# Altium footprint library DXPpcb.PCBLIB: 575 footprints (part 17 of 36)
Each footprint in its own frame and in the unit in brackets; x right, y up, seen from the top. Pads: shape width x height; smd on the part's side, far side on the other; paste and mask are expansions set on the pad; w line width, h text height; cw(c..) or ccw(c..) is an arc to the next point about the centre after c.
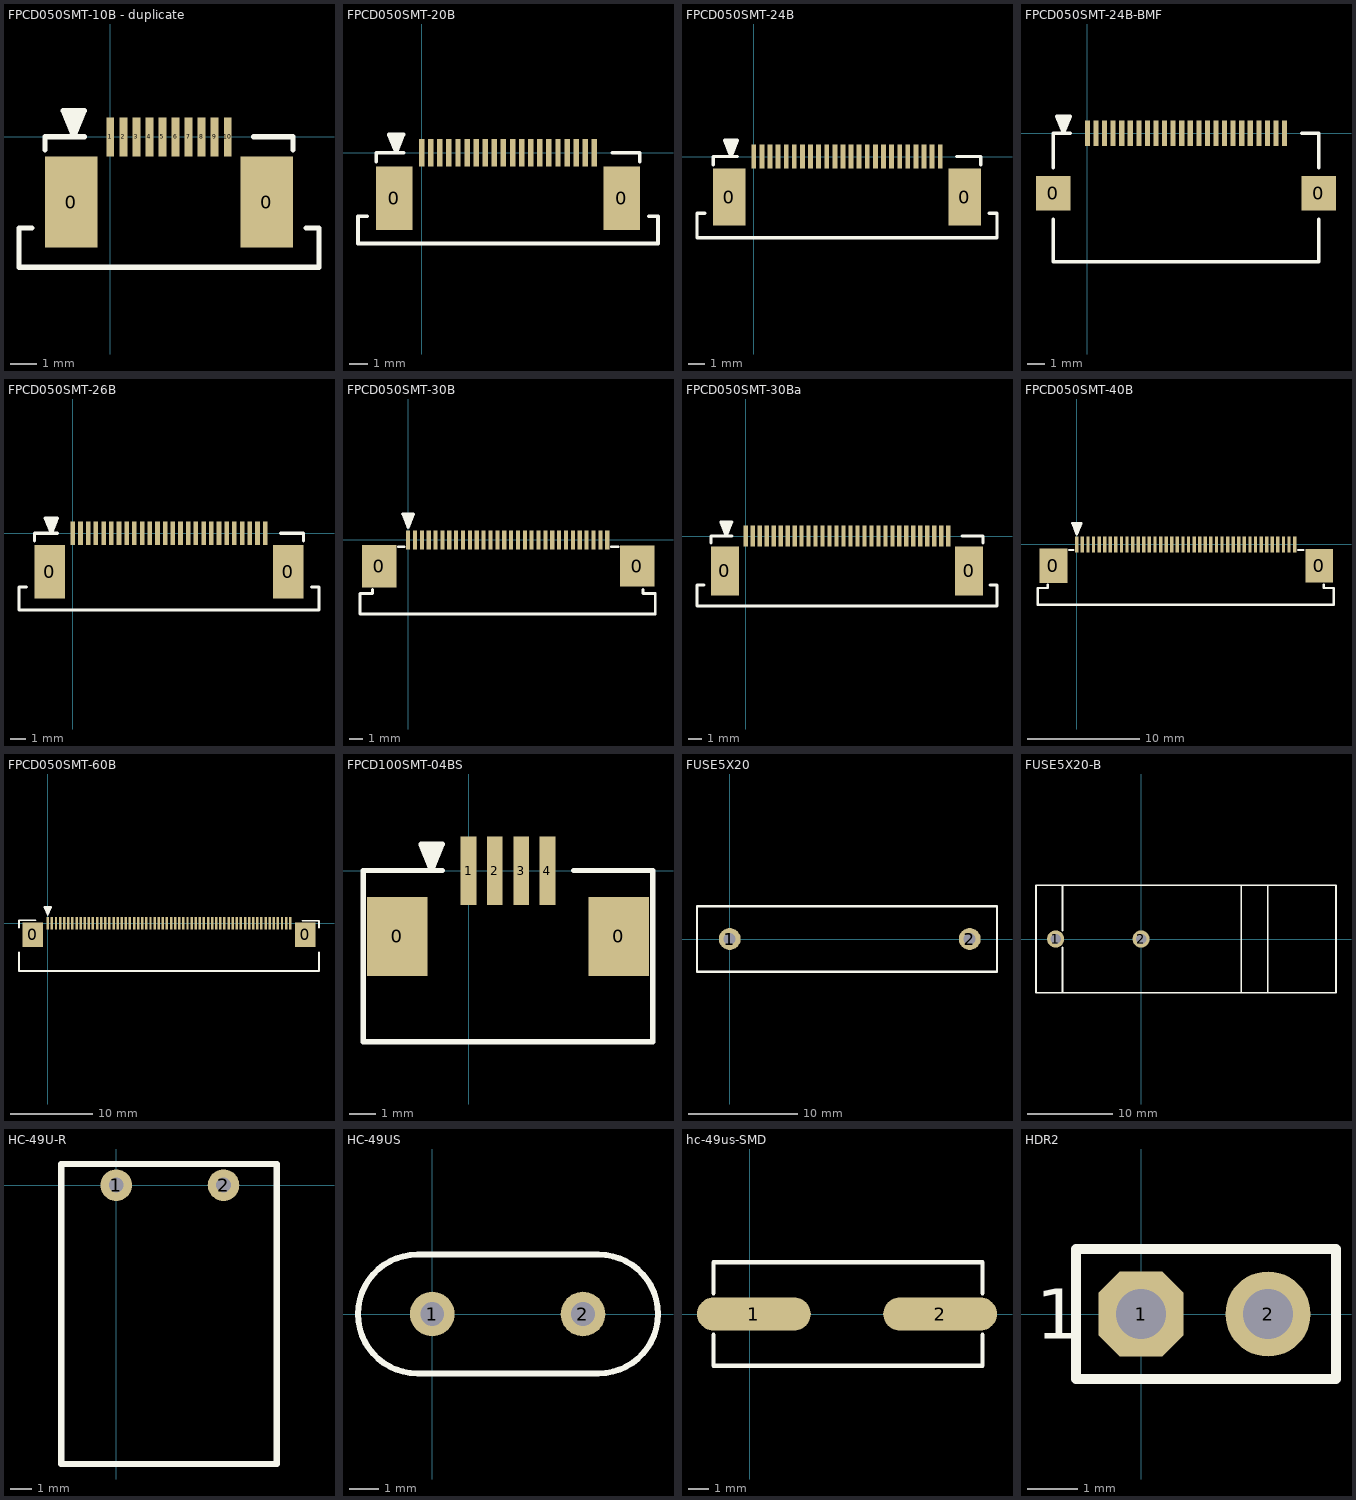
[diagram p16: the footprints below, top view; thin cyan lines are the x and y axes]

## FPCD050SMT-10B - duplicate [mm]
pads (12):
  rect 2x3.5 smd: 0(-1.5,-2.5) 0(6,-2.5)
  rect 0.3x1.5 smd: 1(0,0) 2(0.5,0) 3(1,0) 4(1.5,0) 5(2,0) 6(2.5,0) 7(3,0) 8(3.5,0) 9(4,0) 10(4.5,0)
TopOverlay:
  lines w0.2: -3,-3.5 -3.5,-3.5 -3.5,-5 8,-5 8,-3.5 7.5,-3.5 ; -2.5,-0.5 -2.5,0 -1.5,0 -1,0 ; -1.6,1 -1.5,0.4 ; -1.4,1 -1.4,0 ; -1.3,0.5 -1.2,1 ; 5.5,0 6,0 7,0 7,-0.5 ; -1.4,0 -1,1 -1.8,1 -1.4,0

## FPCD050SMT-20B [mm]
pads (22):
  rect 2x3.5 smd: 0(-1.5,-2.5) 0(11,-2.5)
  rect 0.3x1.5 smd: 1(0,0) 2(0.5,0) 3(1,0) 4(1.5,0) 5(2,0) 6(2.5,0) 7(3,0) 8(3.5,0) 9(4,0) 10(4.5,0) 11(5,0) 12(5.5,0) 13(6,0) 14(6.5,0) 15(7,0) 16(7.5,0) 17(8,0) 18(8.5,0) 19(9,0) 20(9.5,0)
TopOverlay:
  lines w0.2: -3,-3.5 -3.5,-3.5 -3.5,-5 13,-5 13,-3.5 12.5,-3.5 ; -2.5,-0.5 -2.5,0 -1.5,0 -1,0 ; -1.6,1 -1.5,0.4 ; -1.4,1 -1.4,0 ; -1.3,0.5 -1.2,1 ; 10.5,0 11,0 12,0 12,-0.5 ; -1.4,0 -1,1 -1.8,1 -1.4,0

## FPCD050SMT-24B [mm]
pads (26):
  rect 2x3.5 smd: 0(-1.5,-2.5) 0(13,-2.5)
  rect 0.3x1.5 smd: 1(0,0) 2(0.5,0) 3(1,0) 4(1.5,0) 5(2,0) 6(2.5,0) 7(3,0) 8(3.5,0) 9(4,0) 10(4.5,0) 11(5,0) 12(5.5,0) 13(6,0) 14(6.5,0) 15(7,0) 16(7.5,0) 17(8,0) 18(8.5,0) 19(9,0) 20(9.5,0) 21(10,0) 22(10.5,0) 23(11,0) 24(11.5,0)
TopOverlay:
  lines w0.2: -3,-3.5 -3.5,-3.5 -3.5,-5 15,-5 15,-3.5 14.5,-3.5 ; -2.5,-0.5 -2.5,0 -1.5,0 -1,0 ; -1.6,1 -1.5,0.4 ; -1.4,1 -1.4,0 ; -1.3,0.5 -1.2,1 ; 12.5,0 13,0 14,0 14,-0.5 ; -1.4,0 -1,1 -1.8,1 -1.4,0

## FPCD050SMT-24B-BMF [mm]
pads (26):
  rect 2x2 smd: 0(-2,-3.5) 0(13.5,-3.5)
  rect 0.3x1.5 smd: 1(0,0) 2(0.5,0) 3(1,0) 4(1.5,0) 5(2,0) 6(2.5,0) 7(3,0) 8(3.5,0) 9(4,0) 10(4.5,0) 11(5,0) 12(5.5,0) 13(6,0) 14(6.5,0) 15(7,0) 16(7.5,0) 17(8,0) 18(8.5,0) 19(9,0) 20(9.5,0) 21(10,0) 22(10.5,0) 23(11,0) 24(11.5,0)
TopOverlay:
  lines w0.2: -2,-5 -2,-7.5 13.5,-7.5 13.5,-5 ; -2,-2 -2,0 -1.5,0 -1,0 ; -1.6,1 -1.5,0.4 ; -1.4,1 -1.4,0 ; -1.3,0.5 -1.2,1 ; 12.5,0 13,0 13.5,0 13.5,-2 ; -1.4,0 -1,1 -1.8,1 -1.4,0

## FPCD050SMT-26B [mm]
pads (28):
  rect 2x3.5 smd: 0(-1.5,-2.5) 0(14,-2.5)
  rect 0.3x1.5 smd: 1(0,0) 2(0.5,0) 3(1,0) 4(1.5,0) 5(2,0) 6(2.5,0) 7(3,0) 8(3.5,0) 9(4,0) 10(4.5,0) 11(5,0) 12(5.5,0) 13(6,0) 14(6.5,0) 15(7,0) 16(7.5,0) 17(8,0) 18(8.5,0) 19(9,0) 20(9.5,0) 21(10,0) 22(10.5,0) 23(11,0) 24(11.5,0) 25(12,0) 26(12.5,0)
TopOverlay:
  lines w0.2: -3,-3.5 -3.5,-3.5 -3.5,-5 16,-5 16,-3.5 15.5,-3.5 ; -2.5,-0.5 -2.5,0 -1.5,0 -1,0 ; -1.6,1 -1.5,0.4 ; -1.4,1 -1.4,0 ; -1.3,0.5 -1.2,1 ; 13.5,0 14,0 15,0 15,-0.5 ; -1.4,0 -1.8,1 -1,1 -1.4,0

## FPCD050SMT-30B [mm]
pads (32):
  rect 2.5x3.1 smd: 0(-2.1,-1.9)
  rect 2.5x3 smd: 0(16.7,-1.9)
  rect 0.3x1.4 smd: 1(0,0) 2(0.5,0) 3(1,0) 4(1.5,0) 5(2,0) 6(2.5,0) 7(3,0) 8(3.5,0) 9(4,0) 10(4.5,0) 11(5,0) 12(5.5,0) 13(6,0) 14(6.5,0) 15(7,0) 16(7.5,0) 17(8,0) 18(8.5,0) 19(9,0) 20(9.5,0) 21(10,0) 22(10.5,0) 23(11,0) 24(11.5,0) 25(12,0) 26(12.5,0) 27(13,0) 28(13.5,0) 29(14,0) 30(14.5,0)
TopOverlay:
  lines w0.2: -2.6,-3.6 -2.6,-3.9 -3.5,-3.9 -3.5,-5.4 18,-5.4 18,-3.9 17.1,-3.9 17.1,-3.6 ; -0.7,-0.5 -0.3,-0.5 ; -0.2,1.9 -0.1,1.3 ; 0,1.9 0,0.9 ; 0.1,1.4 0.2,1.9 ; 14.8,-0.5 15.3,-0.5 ; 0,0.9 -0.4,1.9 0.4,1.9 0,0.9

## FPCD050SMT-30Ba [mm]
pads (32):
  rect 2x3.5 smd: 0(-1.5,-2.5) 0(16,-2.5)
  rect 0.3x1.5 smd: 1(0,0) 2(0.5,0) 3(1,0) 4(1.5,0) 5(2,0) 6(2.5,0) 7(3,0) 8(3.5,0) 9(4,0) 10(4.5,0) 11(5,0) 12(5.5,0) 13(6,0) 14(6.5,0) 15(7,0) 16(7.5,0) 17(8,0) 18(8.5,0) 19(9,0) 20(9.5,0) 21(10,0) 22(10.5,0) 23(11,0) 24(11.5,0) 25(12,0) 26(12.5,0) 27(13,0) 28(13.5,0) 29(14,0) 30(14.5,0)
TopOverlay:
  lines w0.2: -3,-3.5 -3.5,-3.5 -3.5,-5 18,-5 18,-3.5 17.5,-3.5 ; -2.5,-0.5 -2.5,0 -1.5,0 -1,0 ; -1.6,1 -1.5,0.4 ; -1.4,1 -1.4,0 ; -1.3,0.5 -1.2,1 ; 15.5,0 16,0 17,0 17,-0.5 ; -1.4,0 -1,1 -1.8,1 -1.4,0

## FPCD050SMT-40B [mm]
pads (42):
  rect 2.5x3.1 smd: 0(-2.1,-1.9)
  rect 2.5x3 smd: 0(21.7,-1.9)
  rect 0.3x1.4 smd: 1(0,0) 2(0.5,0) 3(1,0) 4(1.5,0) 5(2,0) 6(2.5,0) 7(3,0) 8(3.5,0) 9(4,0) 10(4.5,0) 11(5,0) 12(5.5,0) 13(6,0) 14(6.5,0) 15(7,0) 16(7.5,0) 17(8,0) 18(8.5,0) 19(9,0) 20(9.5,0) 21(10,0) 22(10.5,0) 23(11,0) 24(11.5,0) 25(12,0) 26(12.5,0) 27(13,0) 28(13.5,0) 29(14,0) 30(14.5,0) 31(15,0) 32(15.5,0) 33(16,0) 34(16.5,0) 35(17,0) 36(17.5,0) 37(18,0) 38(18.5,0) 39(19,0) 40(19.5,0)
TopOverlay:
  lines w0.2: -2.6,-3.6 -2.6,-3.9 -3.5,-3.9 -3.5,-5.4 23,-5.4 23,-3.9 22.1,-3.9 22.1,-3.6 ; -0.7,-0.5 -0.3,-0.5 ; -0.2,1.9 -0.1,1.3 ; 0,1.9 0,0.9 ; 0.1,1.4 0.2,1.9 ; 19.8,-0.5 20.3,-0.5 ; 0,0.9 -0.4,1.9 0.4,1.9 0,0.9

## FPCD050SMT-60B [mm]
pads (62):
  rect 2.5x3 smd: 0(-1.8,-1.4) 0(31.3,-1.4)
  rect 0.3x1.5 smd: 1(0,0) 2(0.5,0) 3(1,0) 4(1.5,0) 5(2,0) 6(2.5,0) 7(3,0) 8(3.5,0) 9(4,0) 10(4.5,0) 11(5,0) 12(5.5,0) 13(6,0) 14(6.5,0) 15(7,0) 16(7.5,0) 17(8,0) 18(8.5,0) 19(9,0) 20(9.5,0) 21(10,0) 22(10.5,0) 23(11,0) 24(11.5,0) 25(12,0) 26(12.5,0) 27(13,0) 28(13.5,0) 29(14,0) 30(14.5,0) 31(15,0) 32(15.5,0) 33(16,0) 34(16.5,0) 35(17,0) 36(17.5,0) 37(18,0) 38(18.5,0) 39(19,0) 40(19.5,0) 41(20,0) 42(20.5,0) 43(21,0) 44(21.5,0) 45(22,0) 46(22.5,0) 47(23,0) 48(23.5,0) 49(24,0) 50(24.5,0) 51(25,0) 52(25.5,0) 53(26,0) 54(26.5,0) 55(27,0) 56(27.5,0) 57(28,0) 58(28.5,0) 59(29,0) 60(29.5,0)
TopOverlay:
  lines w0.2: -3.5,-3.5 -3.5,-5.8 33,-5.8 33,-3.5 ; -3.5,-0.5 -3.5,0.4 -1.5,0.4 ; -0.2,2 -0.1,1.4 ; 0,2 0,1 ; 0.1,1.5 0.2,2 ; 31,0.3 33,0.3 33,-0.5 ; 0,1 0.4,2 -0.4,2 0,1

## FPCD100SMT-04BS [mm]
pads (6):
  rect 2.3x3 smd: 0(-2.7,-2.5) 0(5.7,-2.5)
  rect 0.6x2.6 smd: 1(0,0) 2(1,0) 3(2,0) 4(3,0)
TopOverlay:
  lines w0.2: -1.6,1 -1.5,0.4 ; -1.4,1 -1.4,0 ; -1.3,0.5 -1.2,1 ; -1,0 -1.5,0 -4,0 -4,-6.5 0,-6.5 7,-6.5 7,0 4.9,0 4,0 ; -1.4,0 -1.8,1 -1,1 -1.4,0

## FUSE5X20 [mm]
pads (2):
  round 2 hole 1.1: 1(0,0) 2(22,0)
TopOverlay:
  lines w0.2: -3,-3 24.5,-3 24.5,3 -3,3 -3,-3

## FUSE5X20-B [mm]
pads (2):
  round 2 hole 1.2: 1(-10,0) 2(0,0)
TopOverlay:
  lines w0.2: -9.2,-6.3 -9.2,-1 ; -9.2,1 -9.2,6.3 ; 11.7,-6.3 11.7,6.3 ; 14.8,-6.3 14.8,6.3 ; -12.3,-6.3 22.8,-6.3 22.8,6.3 -12.3,6.3 -12.3,-6.3

## HC-49U-R [mm]
pads (2):
  round 1.5 hole 0.7: 1(0,0) 2(5.08,0)
TopOverlay:
  lines w0.3: -2.6,-13.2 -2.6,1 7.6,1 7.6,-13.2 -2.6,-13.2

## HC-49US [mm]
pads (2):
  round 1.5 hole 0.8: 1(0,0) 2(5.075,0)
TopOverlay:
  lines w0.2: -0.5,-2 cw(c-0.5,0) -0.5,2 5.6,2.001 cw(c5.6,0.001) 5.6,-2 -0.5,-2

## hc-49us-SMD [mm]
pads (2):
  oval 5.5x1.6 smd: 1(0.2,0) 2(9.2,0)
TopOverlay:
  lines w0.2: -1.746,-1 -1.746,-2.5 11.254,-2.5 11.254,-1 ; -1.746,1 -1.746,2.5 11.254,2.5 11.254,1

## HDR2 [mm]
pads (2):
  oct 1.7x1.7 hole 1: 1(0,0)
  round 1.7 hole 1: 2(2.54,0)
TopOverlay:
  lines w0.2: -1.3,-1.3 3.9,-1.3 3.9,1.3 -1.3,1.3 -1.3,-1.3
  text "1" at -2.1,-0.5 h1